# Altium schematic symbol library HEADER-2x1-F.SchLib: 1 symbol
Pins are listed as number, name and electrical type; pins without a type are passive.

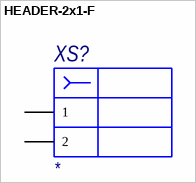
[diagram p0: symbol HEADER-2x1-F]

## HEADER-2x1-F
designator XS?
Value: *
pins: 1, 2